# Altium footprint library USB转换器.PcbLib: 11 footprints
Each footprint in its own frame and in the unit in brackets; x right, y up, seen from the top. Pads: shape width x height; smd on the part's side, far side on the other; paste and mask are expansions set on the pad; w line width, h text height; cw(c..) or ccw(c..) is an arc to the next point about the centre after c.
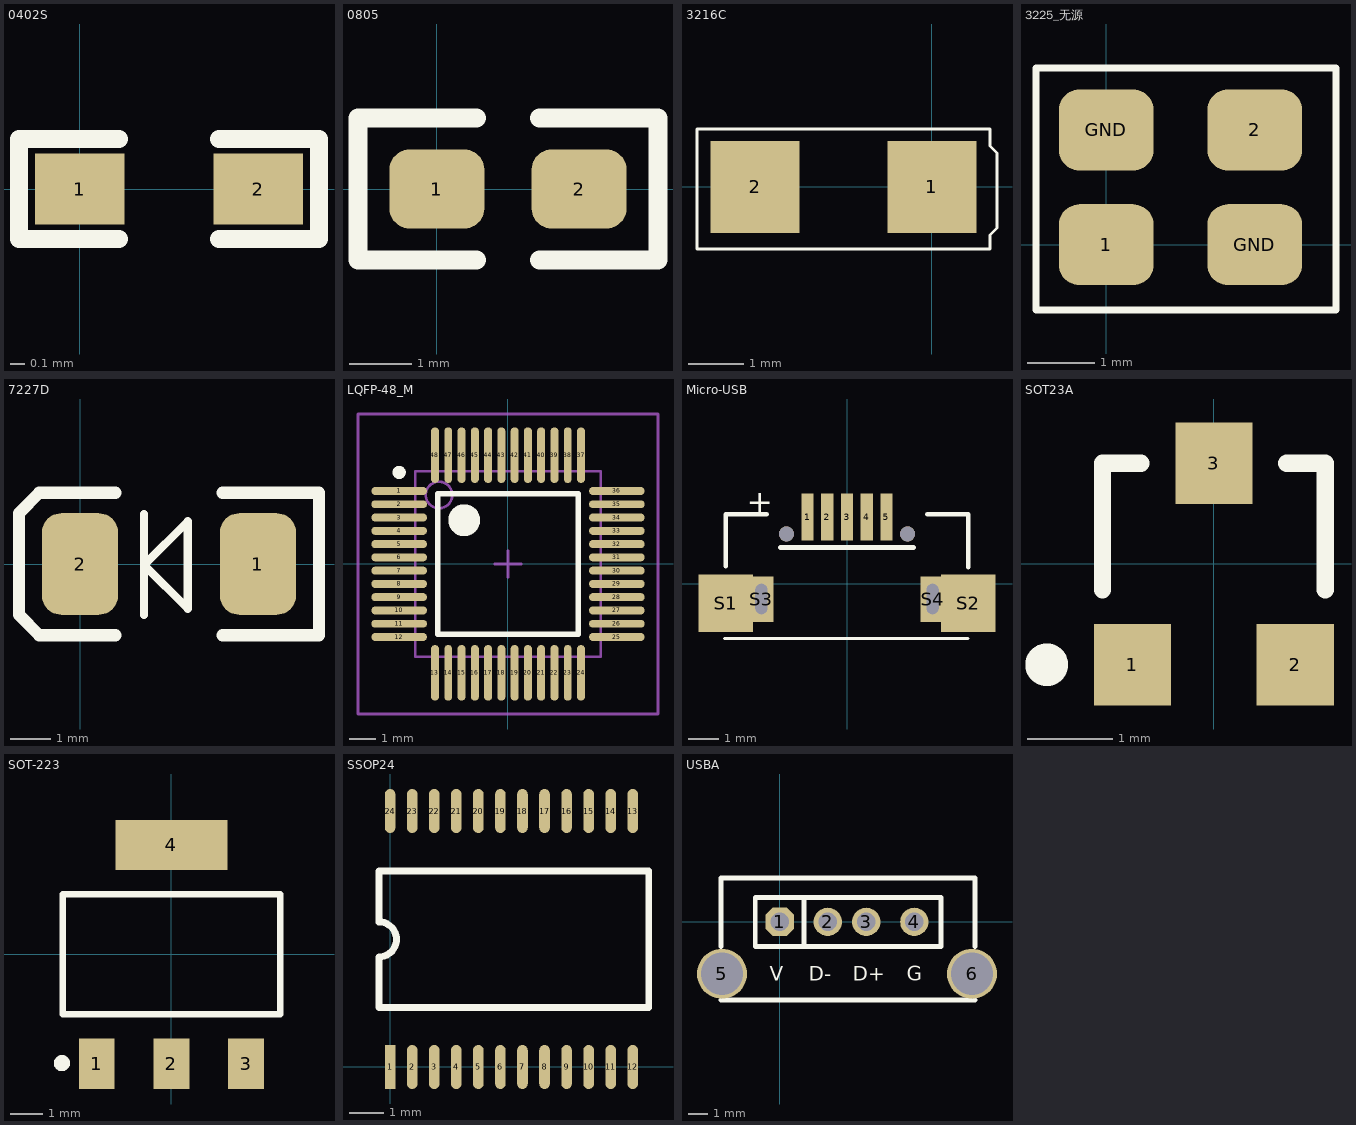
[diagram p0: the footprints below, top view; thin cyan lines are the x and y axes]

## 0402S [mil]
pads (2):
  rect 25x20 smd: 1(0,0) 2(50,0)
Top Overlay:
  lines w5: 11,-14 -17,-14 -17,14 11,14 ; 39,-14 67,-14 67,14 39,14

## 0805 [mil]
pads (2):
  rrect50% 60x50 smd: 1(0,0) 2(90,0)
Top Overlay:
  lines w12: 25,-45 -50,-45 -50,45 25,45 ; 65,-45 140,-45 140,45 65,45

## 3216C [mm]
pads (2):
  rect 1.6x1.65 smd: 1(0,0) 2(-3.175,0)
Top Overlay:
  lines w0.051: -4.216,-1.118 1.041,-1.118 1.041,-0.864 1.168,-0.737 1.168,0.61 1.041,0.737 1.041,1.041 -4.216,1.041 -4.216,-1.118

## 3225_无源 [mm]
pads (4):
  rrect50% 1.4x1.2 smd: 1(0,0) 2(2.2,1.7) GND(0,1.7) GND(2.2,0)
Top Overlay:
  lines w0.102: -1.041,-0.965 -1.041,2.616 3.404,2.616 3.404,-0.965 -1.041,-0.965

## 7227D [mm]
pads (2):
  rrect50% 1.905x2.54 smd: 1(4.445,0) 2(0,0)
Top Overlay:
  lines w0.203: 1.6,-1.27 1.6,1.245 ; 1.6,-0.025 2.692,-1.118 2.692,1.067 1.6,-0.025
  lines w0.305: 0.889,-1.778 -1.016,-1.778 -1.524,-1.27 -1.524,1.27 -1.016,1.778 0.889,1.778 ; 3.556,-1.778 5.969,-1.778 5.969,1.778 3.556,1.778

## LQFP-48_M [mm] "Thin QFP, 48-Leads, Body 7x7mm, Pitch 0.5mm, IPC Low Density"
height 1.6
pads (48):
  oval 2.1x0.3 smd: 1(-4.1,2.75) 2(-4.1,2.25) 3(-4.1,1.75) 4(-4.1,1.25) 5(-4.1,0.75) 6(-4.1,0.25) 7(-4.1,-0.25) 8(-4.1,-0.75) 9(-4.1,-1.25) 10(-4.1,-1.75) 11(-4.1,-2.25) 12(-4.1,-2.75) 25(4.1,-2.75) 26(4.1,-2.25) 27(4.1,-1.75) 28(4.1,-1.25) 29(4.1,-0.75) 30(4.1,-0.25) 31(4.1,0.25) 32(4.1,0.75) 33(4.1,1.25) 34(4.1,1.75) 35(4.1,2.25) 36(4.1,2.75)
  oval 0.3x2.1 smd: 13(-2.75,-4.1) 14(-2.25,-4.1) 15(-1.75,-4.1) 16(-1.25,-4.1) 17(-0.75,-4.1) 18(-0.25,-4.1) 19(0.25,-4.1) 20(0.75,-4.1) 21(1.25,-4.1) 22(1.75,-4.1) 23(2.25,-4.1) 24(2.75,-4.1) 37(2.75,4.1) 38(2.25,4.1) 39(1.75,4.1) 40(1.25,4.1) 41(0.75,4.1) 42(0.25,4.1) 43(-0.25,4.1) 44(-0.75,4.1) 45(-1.25,4.1) 46(-1.75,4.1) 47(-2.25,4.1) 48(-2.75,4.1)
Top Overlay:
  circle w0.25: c-4.1,3.45 r0.125
  circle w0.6: c-1.65,1.65 r0.3
  lines w0.2: -2.65,-2.65 -2.65,2.65 2.65,2.65 2.65,-2.65 -2.65,-2.65
Mechanical 13:
  circle w0.1: c-2.6,2.6 r0.5
  lines w0.1: -3.5,-3.5 -3.5,3.5 3.5,3.5 3.5,-3.5 -3.5,-3.5
Mechanical 15:
  lines w0.1: -0.5,0 0.5,0 ; 0,-0.5 0,0.5 ; -5.65,-5.65 -5.65,5.65 5.65,5.65 5.65,-5.65 -5.65,-5.65
3D body: height 1.6, standoff 0, extent -3.5,-3.5 3.5,3.5

## Micro-USB [mm]
pads (11):
  rect 0.4x1.55 smd: 1(-1.3,2.2) 2(-0.65,2.2) 3(0,2.2) 4(0.65,2.2) 5(1.3,2.2)
  rect 1.8x1.9 smd: S1(-4,-0.635) S2(4,-0.635)
  rect 0.8x1.5 hole 0.4 slot 1 at 90 deg: S3(-2.825,-0.5) S4(2.825,-0.5)
  round 0.5 hole 0.5 unplated: ""(-2,1.65) ""(2,1.65)
Top Overlay:
  lines w0.1: -4.05,-1.8 4,-1.8
  lines w0.152: -4,0.584 -4,2.3 -2.65,2.3 ; -2.2,1.2 2.2,1.2 ; 2.65,2.3 4,2.3 4,0.55
  text "+" at -3.3,2.35 h0.76

## SOT23A [mm] "SOT-23; 3 Leads; Body 3.0 x 2.5 mm, inc. leads (LxW max)"
height 1.2
pads (3):
  rect 0.9x0.95 smd: 1(-0.95,-1.175) 2(0.95,-1.175) 3(0,1.175)
Top Overlay:
  circle w0.25: c-1.95,-1.175 r0.125
  lines w0.2: -1.3,-0.3 -1.3,1.175 -0.85,1.175 ; 0.85,1.175 1.3,1.175 1.3,-0.3

## SOT-223 [mm]
height 1.8
pads (4):
  rect 1.1x1.55 smd: 1(-2.3,-3.375) 2(0,-3.375) 3(2.3,-3.375)
  rect 3.45x1.55 smd: 4(0,3.375)
Top Overlay:
  circle w0.25: c-3.376,-3.353 r0.125
  lines w0.2: -3.35,-1.85 3.35,-1.85 3.35,1.85 -3.35,1.85 -3.35,-1.85
3D body: height 0.3, standoff 0, extent 1.905,-3.937 2.794,-2.032
3D body: height 0.3, standoff 0, extent -0.508,-3.937 0.381,-2.032
3D body: height 0.3, standoff 0, extent -2.794,-3.937 -1.905,-2.032
3D body: height 0.3, standoff 0, extent -1.651,2.159 1.651,3.429
3D body: height 0.8, standoff 0, extent -3.302,-2.032 3.302,2.159

## SSOP24 [mil]
pads (24):
  rect 12x50 smd: 1(0,0)
  oval 12x50 smd: 2(25,0) 3(50,0) 4(75,0) 5(100,0) 6(125,0) 7(150,0) 8(175,0) 9(200,0) 10(225,0) 11(250,0) 12(275,0) 13(275,290) 14(250,290) 15(225,290) 16(200,290) 17(175,290) 18(150,290) 19(125,290) 20(100,290) 21(75,290) 22(50,290) 23(25,290) 24(0,290)
Top Overlay:
  lines w7.87: -12.79,124 -12.79,67.24 293.11,67.24 293.11,221.97 -12.79,221.97 -12.79,164 ; -12.8,124.61 ccw(c-12.79,144.61) -12.79,164.61

## USBA [mm]
pads (6):
  oct 1.473x1.473 hole 0.965: 1(0,0)
  round 1.473 hole 0.965: 2(2.5,0) 3(4.5,0) 4(7,0)
  round 2.6 hole 2.2: 5(-3,-2.7) 6(10,-2.7)
Top Overlay:
  lines w0.254: -3.048,-4.064 10.16,-4.064 ; -3.048,-1.27 -3.048,2.286 10.16,2.286 10.16,-1.27 ; 1.27,-1.27 1.27,1.27 ; -1.27,-1.27 8.382,-1.27 8.382,1.27 -1.27,1.27 -1.27,-1.27
  text "D-" at 1.524,-3.048 h0.76
  text "D+" at 3.81,-3.048 h0.76
  text "V" at -0.508,-3.048 h0.76
  text "G" at 6.604,-3.048 h0.76